# Altium schematic symbol library Conn-2pos.SchLib: 1 symbol
Pins are listed as number, name and electrical type; pins without a type are passive.

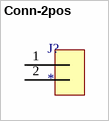
[diagram p0: symbol Conn-2pos]

## Conn-2pos
designator J?
pins: 1, 2